# Altium schematic symbol library MCD.SCHLIB: 35 symbols
Pins are listed as number, name and electrical type; pins without a type are passive.

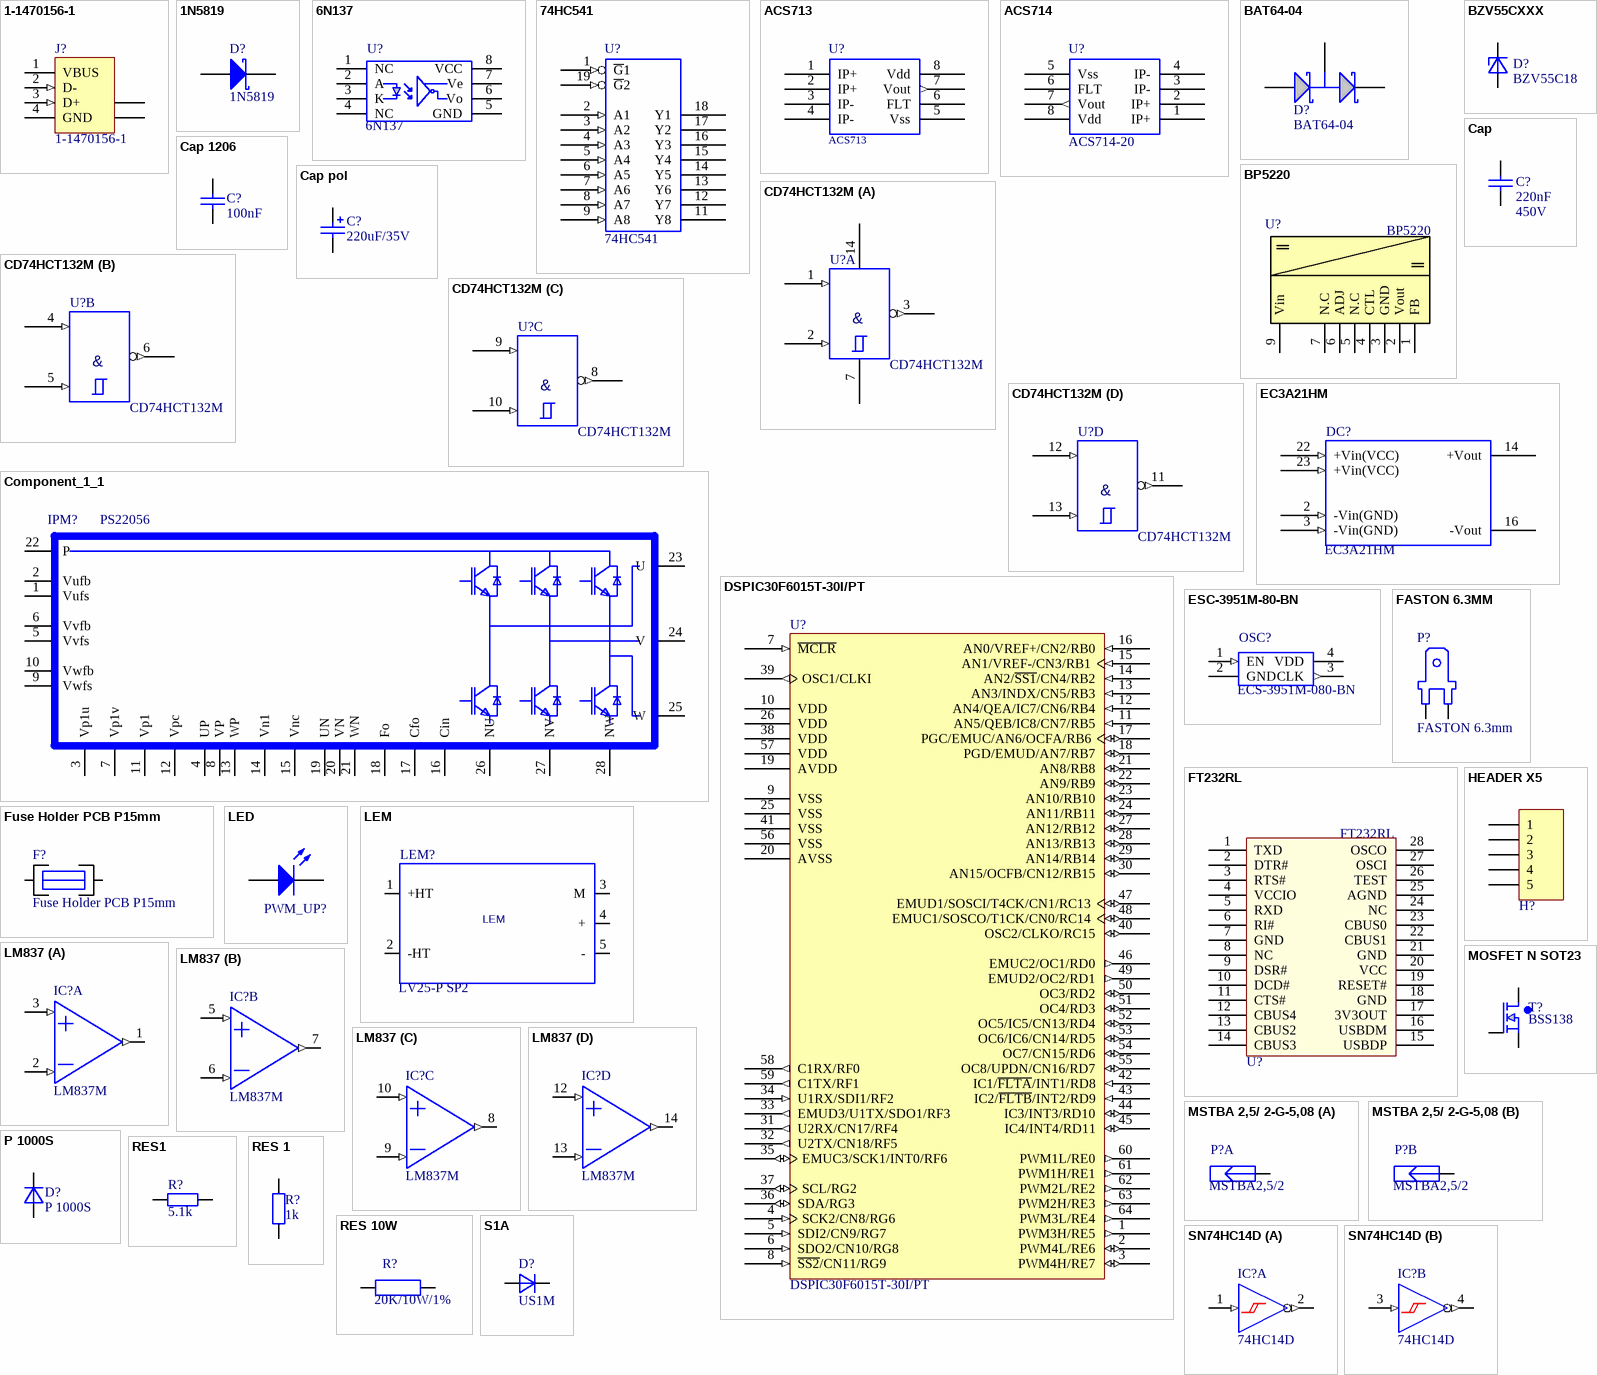
[diagram p0: symbols 1-1470156-1 to SN74HC14D]

## 1-1470156-1
designator J?
USB 1.1, Right Angle, Thru-Hole, B Type, Receptacle, 4 Position, White; ContactMaterial: Phosphor Bronze; ContactPlating: Gold over Nickel; TerminationLength: 3.00mm [0.118in.]; PCB_Layout: Complies with manufacturer's recommendation.; DrillSize: Corresponds to nominal value.; PanelGround: Without; Published: 15-Jul-2004; DatasheetDocument: 02-Jun-2001; PackageDocument: 02-Jun-2001; PackageReference: 1-1470156; Publisher: Altium Limited; HousingMaterial: Glass-Filled Thermoplastic; ComponentLink1Description: Manufacturer Link; ComponentLink1URL: http://www.tycoelectronics.com/; ComponentLink2Description: Packaging Specification; ComponentLink2URL: http://ecommas.tycoelectronics.com/commerce/DocumentDelivery/DDEController?Action=showdoc&DocId=Customer+Drawing%7F1470156%7FO%7Ftif%7FEnglish%7FC_1470156_O.tif
footprint USB2.5-2H4D (Connector; USB1.1, Type B, Thru-Hole; 4 Position; Right Angle)
signal-integrity model USB1.1
pins: 1 VBUS (power) "Power", 2 D- (in) "-DATA", 3 D+ (in) "+DATA", 4 GND (power) "Ground", 5 SHLD "Shield", 6 SHLD "Shield"

## 1N5819
designator D?
Value: 1N5819
footprint DO-214_S1A(Primary)
pins: A, K

## 6N137
designator U?
Single Optocoupler; Manufacturer: Agilent; Value: 6N137
footprint SO8_HIS
pins: 1 NC, 2 A, 3 K, 4 NC, 5 GND, 6 Vo, 7 Ve, 8 VCC

## 74HC541
designator U?
Value: 74HC541
footprint SOL20
pins: 1 ~{G}1 (in), 2 A1 (in), 3 A2 (in), 4 A3 (in), 5 A4 (in), 6 A5 (in), 7 A6 (in), 8 A7 (in), 9 A8 (in), 10 GND (power) hidden to GND_DIG, 11 Y8 (hiz), 12 Y7 (hiz), 13 Y6 (hiz), 14 Y5 (hiz), 15 Y4 (hiz), 16 Y3 (hiz), 17 Y2 (hiz), 18 Y1 (hiz), 19 ~{G}2 (in), 20 VCC (power) hidden to +5V_DIG

## ACS713
designator U?
Value: ACS713
footprint SO8
pins: 1 IP+, 2 IP+, 3 IP-, 4 IP-, 5 Vss (power), 6 FLT, 7 Vout (out), 8 Vdd (power)

## ACS714
designator U?  value ACS714-20  (hidden comment: ACS714)
footprint SO8
pins: 1 IP+, 2 IP+, 3 IP-, 4 IP-, 5 Vss (power), 6 FLT, 7 Vout (out), 8 Vdd (power)

## BAT64-04
designator D?
Silicon Schottky Diodes; Manufacturer: INF; ComponentLink1DescBC: Manufacturer Link; Group: Discrete; Subgroup: Diode; Published: 21-Mar-2003; DatasheetDocument: Oct-1999; PackageDocument: Sep-2001; PackageReference: SOT-23; Publisher: Altium Limited; ComponentLink1URL: http://www.infineon.com/; Value: BAT64-04
footprint SOT23_HIS_Primary
footprint SOT23_HIS_SOT23B
pins: 1 A, 2 K, 3 C

## BP5220
designator U?, comment value BP5220  (hidden comment: DC DC ROHM)
footprint BP5220
pins: 1 FB, 2 Vout, 3 GND, 4 CTL, 5 N.C, 6 ADJ, 7 N.C, 9 Vin

## BZV55CXXX
designator D?  value BZV55C18  (hidden comment: BZV55CXXX)
Zener Diode
footprint D_MINIMELF_BZV55C5V1(Primary)
pins: A, K

## Cap
designator C?  value 220nF  Voltage: 450V  (hidden comment: Cap)
footprint CAP26X19P22_5H
pins: 1, 2

## Cap 1206
designator C?  value 100nF  (hidden comment: Cap 1206)
footprint 3216[1206] (Chip Resistor; Body 3.2 x 1.6 mm (LxW typ))
pins: 1, 2

## Cap pol
designator C?, comment value 220uF/35V  (hidden comment: Cap)
footprint CAPPR5-12.5x20 (Capacitor, Electrolytic, Radial; Body 12.5 x 20 mm (Dia.xH typ); Pin Spacing 5 mm (typ))
footprint CAPPR7.5-18x35.5 (Capacitor, Electrolytic, Radial; Body 18 x 35.5 mm (Dia.xH typ); Pin Spacing 7.5 mm (typ))
footprint CAPPR3.5-8x12 (Capacitor, Electrolytic, Radial; Body 8 x 12 mm (Dia.xH typ); Pin Spacing 3.5 mm (typ))
footprint CAPPR2.5-6.3x11 (Capacitor, Electrolytic, Radial; Body 6.3 x 11 mm (Dia.xH typ); Pin Spacing 2.5 mm (typ))
footprint Cap Electrolyt 7 (DxH 8x12mm RM3.5)
footprint CAPPR13X25
footprint CAPPR 22X20
pins: 1, 2

## CD74HCT132M
designator U?
Manufacturer 1: Texas Instruments; PN: 01010108-0013-0000; Group: Logic ICs; Detail: QUADRUPLE POSITIVE-NAND GATES WITH SCHMITT-TRIGGER INPUTS; Case: SO-14; Mfr 1 PN: CD74HCT132M; Manufacturer 2: *; Mfr 2 PN: *; ModifyDate: 06/06/2008 17:02:07; Value: CD74HCT132M
footprint SO14
part A pins: 1 1A (in), 2 1B (in), 3 ~{1Y} (out), 7 GND (power), 14 Vcc (power)
part B pins: 4 2A (in), 5 2B (in), 6 ~{2Y} (out)
part C pins: 8 ~{3Y} (out), 9 3A (in), 10 3B (in)
part D pins: 11 ~{4Y} (out), 12 4A (in), 13 4B (in)
part A text: &
part B text: &
part C text: &
part D text: &

## Component_1_1
designator IPM?, comment value PS22056  (hidden comment: Component_1)
Description: IPM Module
footprint PS22054
pins: 1 Vufs, 2 Vufb, 3 Vp1u, 4 UP, 5 Vvfs, 6 Vvfb, 7 Vp1v, 8 VP, 9 Vwfs, 10 Vwfb, 11 Vp1, 12 Vpc, 13 WP, 14 Vn1, 15 Vnc, 16 Cin, 17 Cfo, 18 Fo, 19 UN, 20 VN, 21 WN, 22 P, 23 U, 24 V, 25 W, 26 NU, 27 NV, 28 NW

## DSPIC30F6015T-30I/PT
designator U?
High-Performance 16-bit Digital Signal Controller, 144 KB Flash, 8 KB SRAM, 4 KB EEPROM, 64-Pin TQFP, Industrial Temperature, Tape and Reel; Published: 29-Jan-2009; DatasheetVersion: revD, Jun-2008; PackageVersion: revAW, Oct-2008; PackageReference: TQFP-PT64; Publisher: Altium Limited; PackageDescription: 64-Lead Thin Plastic Quad Flat Pack (PT) - 10x10x1mm Body, 2.00mm [TQFP]; Code_JEDEC: MS-026; ComponentLink1Description: Manufacturer Link; ComponentLink1URL: http://www.microchip.com; ComponentLink2Description: Datasheet; ComponentLink2URL: http://ww1.microchip.com/downloads/en/DeviceDoc/70150D.pdf; ComponentLink3Description: Packaging Specification; ComponentLink3URL: http://ww1.microchip.com/downloads/en/PackagingSpec/00049AW.pdf
footprint TQFP-PT64_N (Thin QFP, 64-Leads, Body 10x10mm, Pitch 0.5mm, IPC Medium Density)
footprint TQFP-PT64_L (Thin QFP, 64-Leads, Body 10x10mm, Pitch 0.5mm, IPC High Density)
footprint TQFP-PT64_M (Thin QFP, 64-Leads, Body 10x10mm, Pitch 0.5mm, IPC Low Density)
pins: 1 PWM3H/RE5 (out), 2 PWM4L/RE6 (io), 3 PWM4H/RE7 (io), 4 SCK2/CN8/RG6 (in), 5 SDI2/CN9/RG7 (in), 6 SDO2/CN10/RG8 (in), 7 ~{MCLR} (in), 8 ~{SS2}/CN11/RG9 (in), 9 VSS (power), 10 VDD (power), 11 AN5/QEB/IC8/CN7/RB5 (in), 12 AN4/QEA/IC7/CN6/RB4 (in), 13 AN3/INDX/CN5/RB3 (in), 14 AN2/~{SS1}/CN4/RB2 (in), 15 AN1/VREF-/CN3/RB1 (in), 16 AN0/VREF+/CN2/RB0 (in), 17 PGC/EMUC/AN6/OCFA/RB6 (io), 18 PGD/EMUD/AN7/RB7 (io), 19 AVDD (power), 20 AVSS (power), 21 AN8/RB8 (io), 22 AN9/RB9 (io), 23 AN10/RB10 (io), 24 AN11/RB11 (io), 25 VSS (power), 26 VDD (power), 27 AN12/RB12 (io), 28 AN13/RB13 (io), 29 AN14/RB14 (io), 30 AN15/OCFB/CN12/RB15 (io), 31 U2RX/CN17/RF4 (out), 32 U2TX/CN18/RF5 (out), 33 EMUD3/U1TX/SDO1/RF3 (out), 34 U1RX/SDI1/RF2 (in), 35 EMUC3/SCK1/INT0/RF6 (io), 36 SDA/RG3 (io), 37 SCL/RG2 (io), 38 VDD (power), 39 OSC1/CLKI (out), 40 OSC2/CLKO/RC15 (io), 41 VSS (power), 42 IC1/~{FLTA}/INT1/RD8 (in), 43 IC2/~{FLTB}/INT2/RD9 (in), 44 IC3/INT3/RD10 (io), 45 IC4/INT4/RD11 (io), 46 EMUC2/OC1/RD0 (out), 47 EMUD1/SOSCI/T4CK/CN1/RC13 (io), 48 EMUC1/SOSCO/T1CK/CN0/RC14 (io), 49 EMUD2/OC2/RD1 (out), 50 OC3/RD2 (io), 51 OC4/RD3 (io), 52 OC5/IC5/CN13/RD4 (io), 53 OC6/IC6/CN14/RD5 (io), 54 OC7/CN15/RD6 (io), 55 OC8/UPDN/CN16/RD7 (io), 56 VSS (power), 57 VDD (power), 58 C1RX/RF0 (out), 59 C1TX/RF1 (out), 60 PWM1L/RE0 (out), 61 PWM1H/RE1 (out), 62 PWM2L/RE2 (out), 63 PWM2H/RE3 (out), 64 PWM3L/RE4 (out)

## EC3A21HM
designator DC?
DC/DC CONVERTER, 3W 5V; Manufacturer: CINCON; Group: IC; Subgroup: Power Management; Subgroup1: DC-DC Converter; Supplier: Any; Order code: *; Package: DIL24; Mounting: TH; Mfrr. Part No.: EC3A21HM; Value: EC3A21HM
footprint DIP24_TRACO
pins: 2 -Vin(GND) (in), 3 -Vin(GND) (in), 14 +Vout (power), 16 -Vout (power), 22 +Vin(VCC) (in), 23 +Vin(VCC) (in)

## ESC-3951M-80-BN
designator OSC?  value ECS-3951M-080-BN  (hidden comment: ESC-3951M-80-BN)
ESC-3951M-80-BN 8Mhz; Mfrr: ECS Inc; Mfrr Part No.: ECS-3951M-080-BN-TR; Order Code: XC295CT-ND; Group: IC; Subgroup: Oscillator; Supplier: Digi-Key
footprint OSC7X5
pins: 1 EN (in), 2 GND (power), 3 CLK (out), 4 VDD (power)

## FASTON 6.3MM
designator P?
Value: FASTON 6.3mm
footprint FASTON 6.3mm
pins: 1, 2

## FT232RL
designator U?
Value: FT232RL
footprint SSOP28
pins: 1 TXD, 2 DTR#, 3 RTS#, 4 VCCIO, 5 RXD, 6 RI#, 7 GND, 8 NC, 9 DSR#, 10 DCD#, 11 CTS#, 12 CBUS4, 13 CBUS2, 14 CBUS3, 15 USBDP, 16 USBDM, 17 3V3OUT, 18 GND, 19 RESET#, 20 VCC, 21 GND, 22 CBUS1, 23 CBUS0, 24 NC, 25 AGND, 26 TEST, 27 OSCI, 28 OSCO

## Fuse Holder PCB P15mm
designator F?
Value: Fuse Holder PCB P15mm
footprint Fuse Holder PCB P15mm
pins: 1, 2

## HEADER X5
designator H?  (value not drawn)
Value: HEADER X5
footprint SIP5
pins: 1, 2, 3, 4, 5

## LED
designator PWM_UP?  (value not drawn)
Value: TBD
footprint LED_1206
pins: A, K

## LEM
designator LEM?  value LV25-P SP2  (hidden comment: LEM)
LV25-P
footprint LV25
pins: 1 +HT, 2 -HT, 3 M, 4 +, 5 -

## LM837
designator IC?  value LM837M  (hidden comment: LM837)
Manufacturer: National Semiconductor; Description: Quad Low Noise OpAmp
footprint SO14
pins on every part: 4 VCC (power) hidden to +15V_ANA, 11 VEE (power) hidden to -15V_ANA
part A pins: 1 OUT1 (out), 2 -IN1 (in), 3 +IN1 (in)
part B pins: 5 +IN2 (in), 6 -IN2 (in), 7 OUT2 (out)
part C pins: 8 OUT3 (out), 9 -IN3 (in), 10 +IN3 (in)
part D pins: 12 +IN4 (in), 13 -IN4 (in), 14 OUT4 (out)

## MOSFET N SOT23
designator T?  value BSS138  (hidden comment: MOSFET N SOT23)
pins: D, G, S

## MSTBA 2,5/ 2-G-5,08
designator P?  value MSTBA2,5/2  (hidden comment: MSTBA 2,5/ 2-G-5,08)
Header, right angled, 12 A, 250 V, pitch 5.08 mm, No. of poles:2; Manufacturer: Phoenix; Mfrr. Part No.: 1757242; Group: Connector; Subgroup: Industrial; Supplier: Any; Mounting: TH; Package: TH; Order Code: *
footprint MSTB2.5/2-G-5.08
part A pins: 1 SIG
part B pins: 2 SIG

## P 1000S
designator D?
Description: Standard silicon rectifier  diode; Value: P 1000S
footprint P 1000 S (1200V Rectifier Diode)
pins: A, K

## RES1
designator R?, comment value 5.1k  (hidden comment: Resistor)
footprint 3216[1206] (Chip Resistor; Body 3.2 x 1.6 mm (LxW typ))
pins: 1, 2

## RES 1
designator R?, comment value 1k  (hidden comment: RES)
footprint 1206_REFLOW
footprint RA161004
pins: 1, 2

## RES 10W
designator R?  value 20K/10W/1%  (hidden comment: RES 10W)
footprint RES 10W
pins: 1, 2

## S1A
designator D?, comment US1M
S1A; Value: US1M
footprint DO-214_S1A(Primary)
pins: A, K

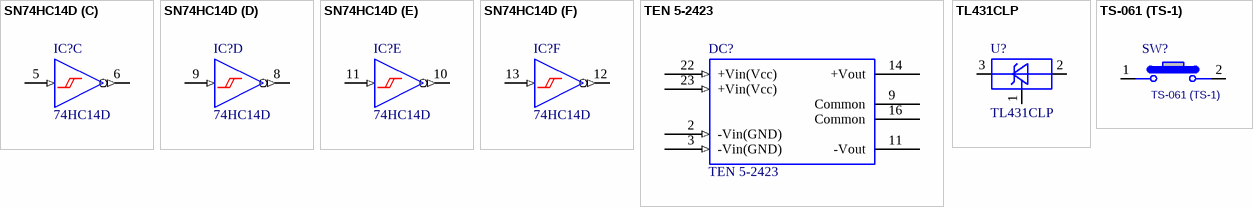
[diagram p1: symbols SN74HC14D to TS-061 (TS-1)]

## SN74HC14D
designator IC?  value 74HC14D  (hidden comment: SN74HC14D)
Hex Schmitt-Trigger INVERTERS; Group: IC; Subgroup: Logic; Subgroup1: Gate; Package: SO14; Mounting: SMD
footprint SO14_HIS
pins on every part: 7 GND (power) hidden, 14 +5V_DRV (power) hidden
part A pins: 1 A (in), 2 Y (out)
part B pins: 3 A (in), 4 Y (out)
part C pins: 5 A (in), 6 Y (out)
part D pins: 8 Y (out), 9 A (in)
part E pins: 10 Y (out), 11 A (in)
part F pins: 12 Y (out), 13 A (in)

## TEN 5-2423
designator DC?
Value: TEN 5-2423
footprint DIP24_TRACO
pins: 2 -Vin(GND) (in), 3 -Vin(GND) (in), 9 Common, 11 -Vout (power), 14 +Vout (power), 16 Common (power), 22 +Vin(Vcc) (in), 23 +Vin(Vcc) (in)

## TL431CLP
designator U?
Manufacturer 1: Texas Instruments; PN: 01010112-0041-0000; Group: Power-management ICs; Detail: Adjustable Shunt Regulator; Order Code 1: TL431CLP MBR; OriginalName: LM336BZ; Description: 2.5V Voltage Reference; ComponentField7: Published 24-Aug-2001; Case: TO-92; Mfr 1 PN: TL431CLP; CreateDate: 06/06/2008 17:02:07; ModifyDate: 02/26/2009 17:21:37; Supplier 1: Comet; Price 1: 0.08 ˆ; Value: TL431CLP
footprint TO-92 - TL431
pins: 1 REF, 2 ANODE, 3 CATHODE

## TS-061 (TS-1)
designator SW?
BUTTON; Value: TS-061 (TS-1)
footprint BUTTON
pins: 1, 2, 3 hidden, 4 hidden